# Altium footprint library PCB_Library.PcbLib: 8 footprints
Each footprint in its own frame and in the unit in brackets; x right, y up, seen from the top. Pads: shape width x height; smd on the part's side, far side on the other; paste and mask are expansions set on the pad; w line width, h text height; cw(c..) or ccw(c..) is an arc to the next point about the centre after c.
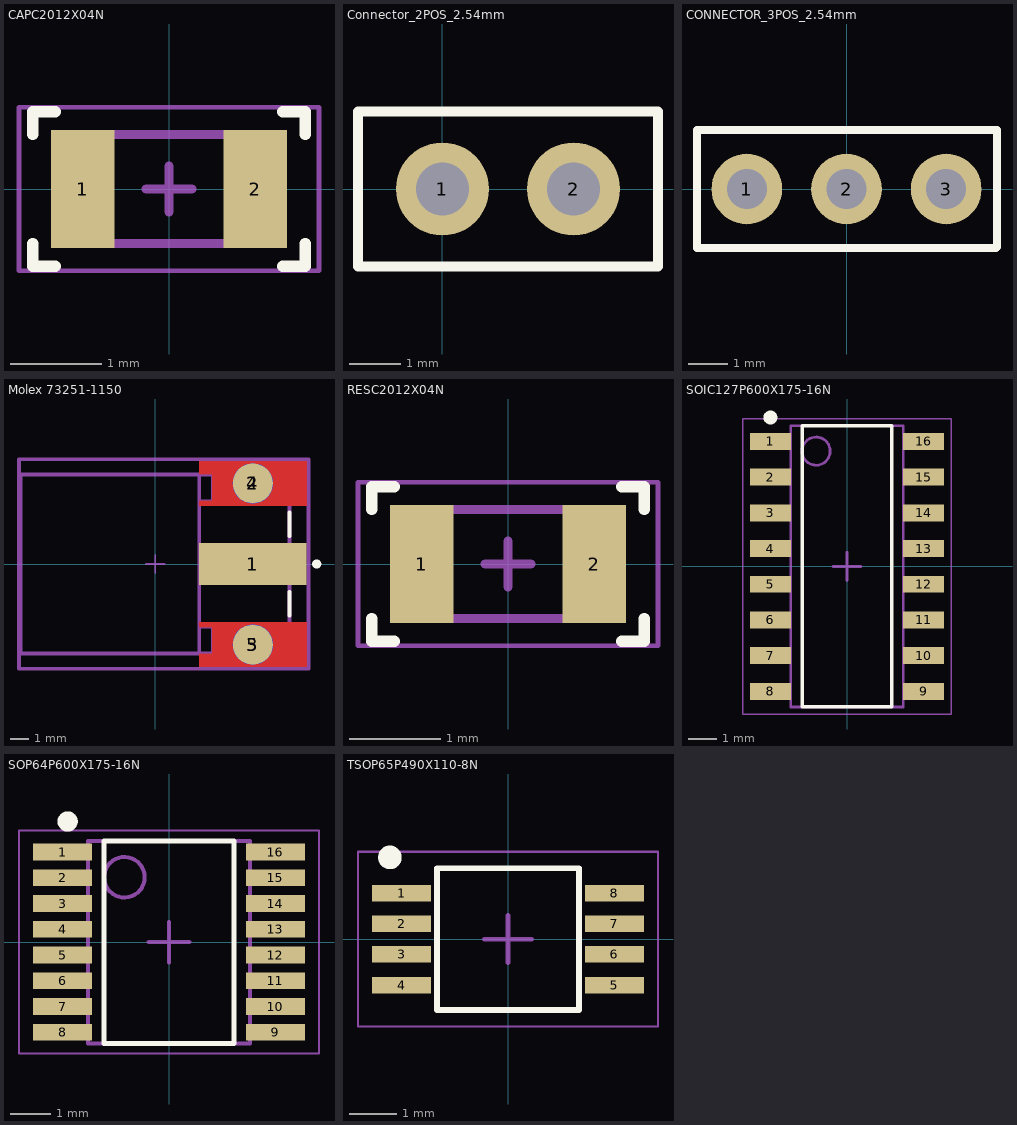
[diagram p0: the footprints below, top view; thin cyan lines are the x and y axes]

## CAPC2012X04N [mm] "Chip Capacitor, 2-Leads, Body 2.00x1.20mm, IPC Medium Density"
height 0.45
pads (2):
  rect 0.7x1.3 smd: 1(-0.95,0) 2(0.95,0)
Top Overlay:
  lines w0.125: -1.5,-0.6 -1.5,-0.85 -1.25,-0.85 ; -1.5,0.6 -1.5,0.85 -1.25,0.85 ; 1.25,-0.85 1.5,-0.85 1.5,-0.6 ; 1.25,0.85 1.5,0.85 1.5,0.6
Mechanical 13:
  lines w0.1: -1,-0.6 1,-0.6 1,0.6 -1,0.6 -1,-0.6
Mechanical 15:
  lines w0.05: -1.65,-0.9 1.65,-0.9 1.65,0.9 -1.65,0.9 -1.65,-0.9
  lines w0.1: -0.25,0 0.25,0 ; 0,-0.25 0,0.25
3D body "RESC2012X04N.step": height 0.45, standoff 0, extent -1,-0.6 1,0.6

## Connector_2POS_2.54mm [mm]
pads (2):
  round 1.8 hole 1.02: 1(0,0) 2(2.54,0)
Top Overlay:
  lines w0.2: -1.635,-1.5 -1.635,1.5 4.175,1.5 4.175,0 4.175,-1.5 -1.635,-1.5

## CONNECTOR_3POS_2.54mm [mm]
pads (3):
  round 1.8 hole 1.02: 1(-2.54,0) 2(0,0) 3(2.54,0)
Top Overlay:
  lines w0.2: 3.8,-1.5 -3.81,-1.5 -3.81,1.5 3.835,1.5 3.835,0 3.835,-1.475 3.81,-1.5

## Molex 73251-1150 [mil]
pads (5):
  rect 229.92x90.16 smd paste+0 mask+0: 1(209,0)
  round 85.57 smd paste+0 mask+0: 2(209,172.54) 3(209,-172.54)
  round 85.57 smd far side paste+0 mask+0: 4(209,172.54) 5(209,-172.54)
Top Layer:
  region: 94.04,-220.08 323.96,-220.08 323.96,-125 94.04,-125 94.04,-135.04 121.99,-135.04 121.99,-192.52 94.04,-192.52
  region: 94.04,220.08 323.96,220.08 323.96,125 94.04,125 94.04,135.04 121.99,135.04 121.99,192.52 94.04,192.52
Bottom Layer:
  region: 94.04,-220.08 323.96,-220.08 323.96,-125 94.04,-125 94.04,-135.04 121.99,-135.04 121.99,-192.52 94.04,-192.52
  region: 94.04,220.08 323.96,220.08 323.96,125 94.04,125 94.04,135.04 121.99,135.04 121.99,192.52 94.04,192.52
Top Overlay:
  circle w9.84: c345.61,0 r4.92
  lines w7.87: 287.5,-110.24 287.5,-59.84 ; 287.5,59.84 287.5,110.24
Mechanical 2:
  lines w5.91: 94,-192.5 122,-192.5 122,-135 94,-135 ; 94,135 122,135 122,192.5 94,192.5
Mechanical 10:
  text ".Designator" at 18.23,0 h39.37
Mechanical 13:
  lines w7.87: 94,-191 94,191 ; -287.5,-191.5 -287.5,191.5 287.5,191.5 287.5,-191.5 -287.5,-191.5
Mechanical 15:
  lines w3.94: -19.68,0 19.68,0 ; 0,-19.68 0,19.68
  lines w7.87: -291.44,-224.02 327.9,-224.02 ; -291.44,-224.02 -291.44,224.02 ; -291.44,-224.02 -291.44,224.02 ; -291.44,-224.02 327.9,-224.02 ; -291.44,224.02 327.9,224.02 ; -291.44,224.02 327.9,224.02 ; 327.9,-224.02 327.9,224.02 ; 327.9,-224.02 327.9,224.02
3D body "Conn_Molex_Inc_0732511150_eec.STEP": height 178.87, standoff -141, extent -281,-187.5 281,187.5

## RESC2012X04N [mm] "Chip Resistor, 2-Leads, Body 2.00x1.20mm, IPC Medium Density"
height 0.45
pads (2):
  rect 0.7x1.3 smd: 1(-0.95,0) 2(0.95,0)
Top Overlay:
  lines w0.125: -1.5,-0.6 -1.5,-0.85 -1.25,-0.85 ; -1.5,0.6 -1.5,0.85 -1.25,0.85 ; 1.25,-0.85 1.5,-0.85 1.5,-0.6 ; 1.25,0.85 1.5,0.85 1.5,0.6
Mechanical 13:
  lines w0.1: -1,-0.6 1,-0.6 1,0.6 -1,0.6 -1,-0.6
Mechanical 15:
  lines w0.05: -1.65,-0.9 1.65,-0.9 1.65,0.9 -1.65,0.9 -1.65,-0.9
  lines w0.1: -0.25,0 0.25,0 ; 0,-0.25 0,0.25
3D body "RESC2012X04N.step": height 0.45, standoff 0, extent -1,-0.6 1,0.6

## SOIC127P600X175-16N [mm] "SOIC, 16-Leads, Body 9.90x3.90mm, Pitch 1.27mm, IPC Medium Density"
height 1.75
pads (16):
  rect 1.45x0.6 smd: 1(-2.725,4.445) 2(-2.725,3.175) 3(-2.725,1.905) 4(-2.725,0.635) 5(-2.725,-0.635) 6(-2.725,-1.905) 7(-2.725,-3.175) 8(-2.725,-4.445) 9(2.725,-4.445) 10(2.725,-3.175) 11(2.725,-1.905) 12(2.725,-0.635) 13(2.725,0.635) 14(2.725,1.905) 15(2.725,3.175) 16(2.725,4.445)
Top Overlay:
  circle w0.25: c-2.725,5.295 r0.125
  lines w0.125: -1.6,-5 1.6,-5 1.6,5 -1.6,5 -1.6,-5
Mechanical 13:
  circle w0.1: c-1.1,4.1 r0.5
  lines w0.1: -2,-5 2,-5 2,5 -2,5 -2,-5
Mechanical 15:
  lines w0.05: -3.7,-5.25 3.7,-5.25 3.7,5.25 -3.7,5.25 -3.7,-5.25
  lines w0.1: -0.5,0 0.5,0 ; 0,-0.5 0,0.5
3D body "SOIC127P600X175-16N.step": height 1.75, standoff 0, extent -3,-5 3,5

## SOP64P600X175-16N [mm] "SOP, 16-Leads, Body 4.89x3.90mm, Pitch 0.64mm, IPC Medium Density"
height 1.75
pads (16):
  rect 1.45x0.41 smd: 1(-2.627,2.222) 2(-2.627,1.587) 3(-2.627,0.953) 4(-2.627,0.318) 5(-2.627,-0.318) 6(-2.627,-0.953) 7(-2.627,-1.587) 8(-2.627,-2.222) 9(2.627,-2.222) 10(2.627,-1.587) 11(2.627,-0.953) 12(2.627,-0.318) 13(2.627,0.318) 14(2.627,0.953) 15(2.627,1.587) 16(2.627,2.222)
Top Overlay:
  circle w0.25: c-2.5,2.977 r0.125
  lines w0.125: -1.6,-2.5 -1.6,2.5 1.6,2.5 1.6,-2.5 -1.6,-2.5
Mechanical 13:
  circle w0.1: c-1.1,1.6 r0.5
  lines w0.1: -2,-2.5 -2,2.5 2,2.5 2,-2.5 -2,-2.5
Mechanical 15:
  lines w0.05: -3.7,-2.75 -3.7,2.75 3.7,2.75 3.7,-2.75 -3.7,-2.75
  lines w0.1: -0.5,0 0.5,0 ; 0,-0.5 0,0.5
3D body "SOP64P600X175-16N.step": height 1.75, standoff 0, extent -3.004,-2.5 3.004,2.5

## TSOP65P490X110-8N [mm] "TSOP, 8-Leads, Body 3.00x3.00mm, Pitch 0.65mm, IPC Medium Density"
height 1.1
pads (8):
  rect 1.25x0.35 smd: 1(-2.25,0.975) 2(-2.25,0.325) 3(-2.25,-0.325) 4(-2.25,-0.975) 5(2.25,-0.975) 6(2.25,-0.325) 7(2.25,0.325) 8(2.25,0.975)
Top Overlay:
  circle w0.25: c-2.5,1.73 r0.125
  lines w0.125: -1.5,-1.5 1.5,-1.5 1.5,1.5 -1.5,1.5 -1.5,-1.5
Mechanical 13:
  lines w0.1: -1.5,-1.5 1.5,-1.5 1.5,1.5 -1.5,1.5 -1.5,-1.5
Mechanical 15:
  lines w0.05: -3.175,-1.85 3.175,-1.85 3.175,1.85 -3.175,1.85 -3.175,-1.85
  lines w0.1: -0.5,0 0.5,0 ; 0,-0.5 0,0.5
3D body "TSOP65P490X110-8N.step": height 1.1, standoff 0, extent -2.45,-1.5 2.45,1.5